# EAGLE library part PINHD-1X11 (library FoneAstra3.2)
PIN HEADER
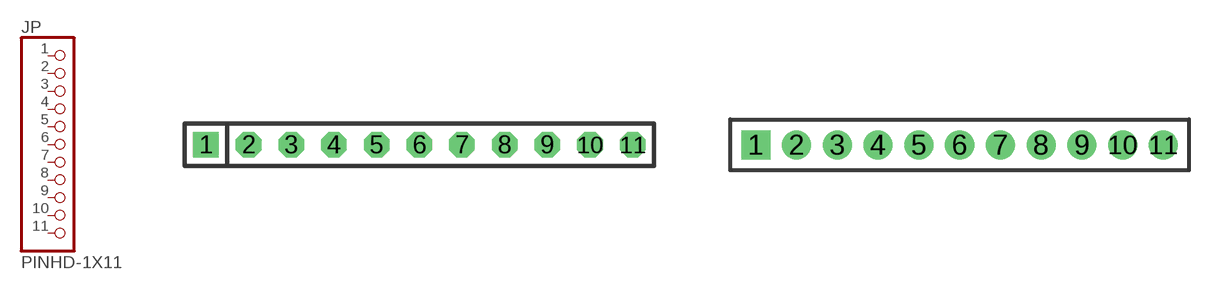
[diagram p12: symbol with the pads of 1X11; footprints 1X11, 1X11M]

Designator prefix JP

## PINHD-1X11  [1X11]
1  1  pas
2  2  pas
3  3  pas
4  4  pas
5  5  pas
6  6  pas
7  7  pas
8  8  pas
9  9  pas
10  10  pas
11  11  pas

## PINHD-1X11M  [1X11M]
Pads as for 1X11

## Footprint 1X11 (pad centres in mm)
PIN HEADER - 0.1"
drill 1.016 square: 1 -12.7,0
drill 1.016 octagon: 2 -10.16,0; 3 -7.62,0; 4 -5.08,0; 5 -2.54,0; 6 0,0; 7 2.54,0; 8 5.08,0; 9 7.62,0; 10 10.16,0; 11 12.7,0

## Footprint 1X11M (pad centres in mm)
PIN HEADER - 2MM"
drill 0.914 square: 1 -10,0
drill 0.914: 2 -8,0; 3 -6,0; 4 -4,0; 5 -2,0; 6 0,0; 7 2,0; 8 4,0; 9 6,0; 10 8,0; 11 10,0